# Altium schematic symbol library GRM155R61A823KA01D.SchLib: 1 symbol
Pins are listed as number, name and electrical type; pins without a type are passive.

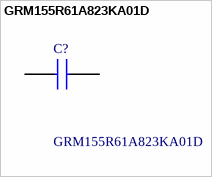
[diagram p0: symbol GRM155R61A823KA01D]

## GRM155R61A823KA01D
designator C?
Multilayer Ceramic Capacitors MLCC - SMD/SMT 0402 0.082uF 10volts 10%; Manufacturer_Name: Murata Electronics; Geometry.Height: 0.55mm; Manufacturer_Part_Number: GRM155R61A823KA01D; Mouser Part Number: 81-GRM155R61A823KA1D; Mouser Price/Stock: https://www.mouser.co.uk/ProductDetail/Murata-Electronics/GRM155R61A823KA01D?qs=9U7yHM2lsjTmY4eOdx%2FDrA%3D%3D; Arrow Part Number: GRM155R61A823KA01D; Arrow Price/Stock: https://www.arrow.com/en/products/grm155r61a823ka01d/murata-manufacturing; Datasheet Link: http://www.murata.com/~/media/webrenewal/support/library/catalog/products/capacitor/mlcc/c02e.pdf
footprint CAPC1005X55N
pins: 1, 2